# Altium footprint library XTAL_12.288MHz_SMD.PcbLib: 1 footprints
Each footprint in its own frame and in the unit in brackets; x right, y up, seen from the top. Pads: shape width x height; smd on the part's side, far side on the other; paste and mask are expansions set on the pad; w line width, h text height; cw(c..) or ccw(c..) is an arc to the next point about the centre after c.
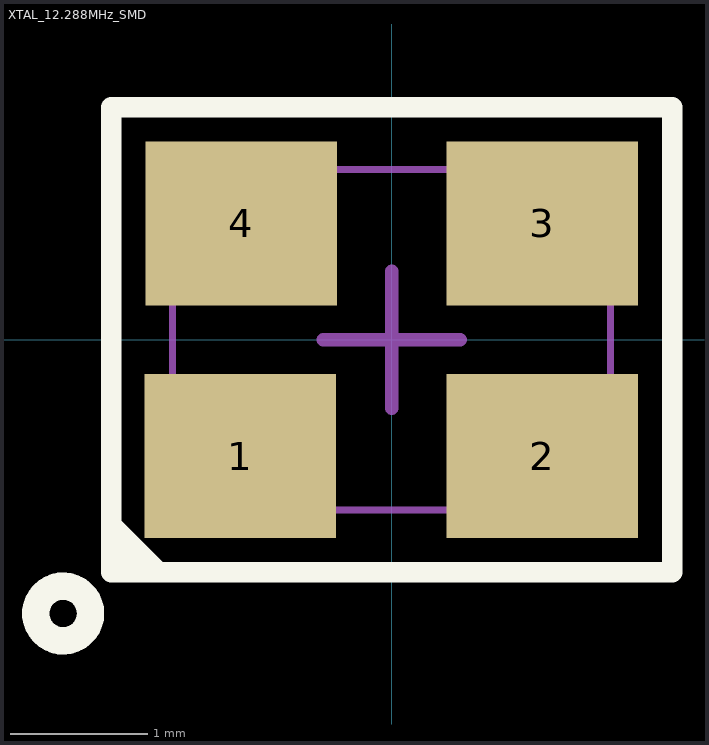
[diagram p0: the footprint, top view; thin cyan lines are the x and y axes]

## XTAL_12.288MHz_SMD [mm] "12.288 MHz ±30ppm Crystal 10pF 80 Ohms 4-SMD, No Lead"
pads (4):
  rect 1.4x1.2 smd: 1(-1.105,-0.85) 2(1.1,-0.85) 3(1.1,0.85) 4(-1.1,0.85)
Top Overlay:
  circle w0.2: c-2.4,-2 r0.2
  region: -2.05,-1.7 -2.05,-1.25 -1.6,-1.7
  lines w0.15: -2.05,-1.7 2.05,-1.7 2.05,1.7 -2.05,1.7 -2.05,-1.7
Top Assembly:
  circle w0.15: c-1.105,-0.85 r0.254
  lines w0.05: -1.6,-1.245 1.6,-1.245 1.6,1.245 -1.6,1.245 -1.6,-1.245
  text ".designator" at -5.198,-0.866 h0.5
Top Courtyard:
  lines w0.05: -2.05,-1.7 2.05,-1.7 2.05,1.7 -2.05,1.7 -2.05,-1.7
  lines w0.1: -0.5,0 0.5,0 ; 0,-0.5 0,0.5
3D body "XTAL_12.88MHz_SMD.STEP": height 0.99, standoff 0, extent -1.6,-1.245 1.6,1.245